# EAGLE library part UG-2864ASWPG01 (library pimoroni-connectors)
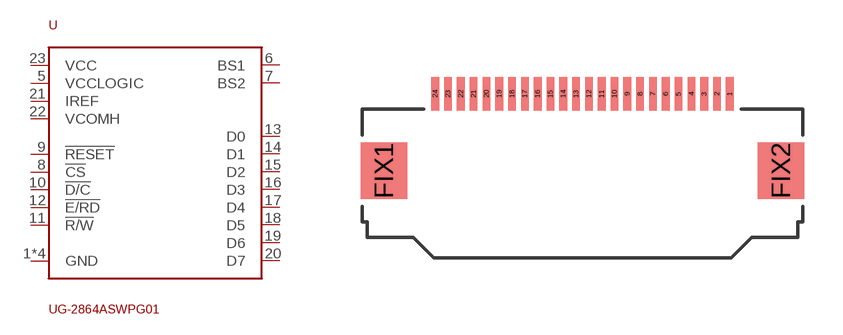
[diagram p1: symbol with the pads of FPC-0.5X24; footprint FPC-0.5X24]

Designator prefix -

## UG-2864ASWPG01  [FPC-0.5X24]
1  GND
2  GND
3  GND
5  VCCLOGIC
6  BS1
7  BS2
8  !CS
9  !RESET
10  !D/C
11  !R/W
12  !E/RD
13  D0
14  D1
15  D2
16  D3
17  D4
18  D5
19  D6
20  D7
21  IREF
22  VCOMH
23  VCC
24  GND

## Footprint FPC-0.5X24 (pad centres in mm)
smd 0.3 x 1.3: 1 5.75,1.8; 2 5.25,1.8; 3 4.75,1.8; 4 4.25,1.8; 5 3.75,1.8; 6 3.25,1.8; 7 2.75,1.8; 8 2.25,1.8; 9 1.75,1.8; 10 1.25,1.8; 11 0.75,1.8; 12 0.25,1.8; 13 -0.25,1.8; 14 -0.75,1.8; 15 -1.25,1.8; 16 -1.75,1.8; 17 -2.25,1.8; 18 -2.75,1.8; 19 -3.25,1.8; 20 -3.75,1.8; 21 -4.25,1.8; 22 -4.75,1.8; 23 -5.25,1.8; 24 -5.75,1.8
smd 1.8 x 2.2: FIX1 -7.75,-1.2; FIX2 7.75,-1.2